# EAGLE library part 74AC11379 (library 74ac-logic)
Quadruple D-type FLIP FLOP, clock enable
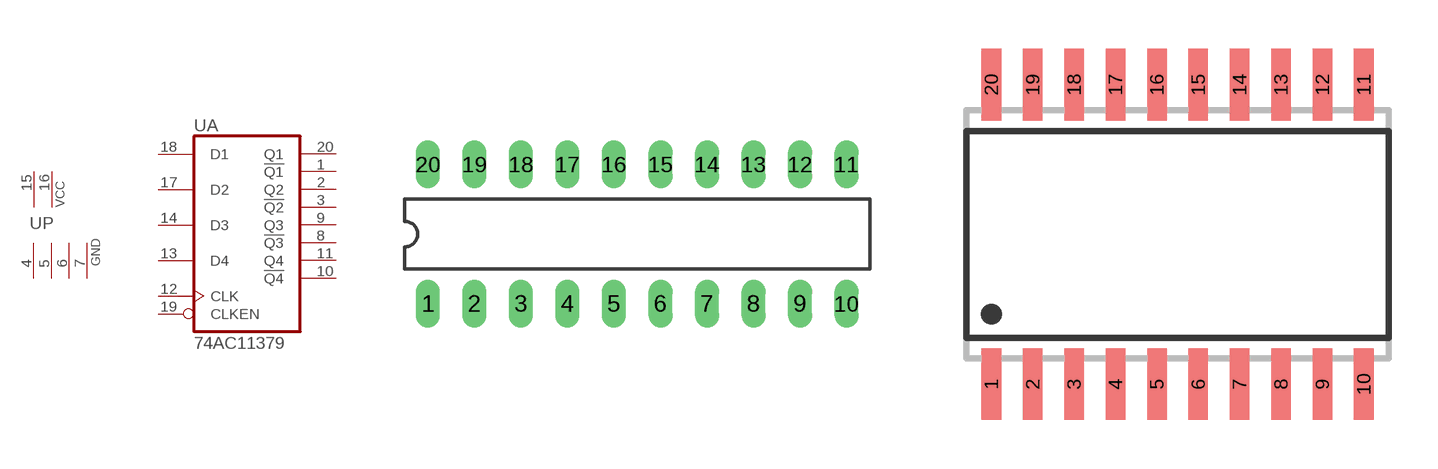
[diagram p45: symbol with the pads of DIL20; footprints DIL20, SO20W]

Designator prefix U; gates A=7411379 P=2PWR4GND

## 74AC11379  [DIL20]
1  A:!Q1!  out
2  A:Q2  out
3  A:!Q2!  out
4  P:GND  pwr
5  P:GND  pwr
6  P:GND  pwr
7  P:GND  pwr
8  A:!Q3!  out
9  A:Q3  out
10  A:!Q4!  out
11  A:Q4  out
12  A:CLK  in
13  A:D4  in
14  A:D3  in
15  P:VCC  pwr
16  P:VCC  pwr
17  A:D2  in
18  A:D1  in
19  A:CLKEN  in
20  A:Q1  out

## 74AC11379D  [SO20W]
Pads as for DIL20

## Footprint DIL20 (pad centres in mm)
Dual In Line Package
drill 0.813 long: 1 -11.43,-3.81; 2 -8.89,-3.81; 3 -6.35,-3.81; 4 -3.81,-3.81; 5 -1.27,-3.81; 6 1.27,-3.81; 7 3.81,-3.81; 8 6.35,-3.81; 9 8.89,-3.81; 10 11.43,-3.81; 11 11.43,3.81; 12 8.89,3.81; 13 6.35,3.81; 14 3.81,3.81; 15 1.27,3.81; 16 -1.27,3.81; 17 -3.81,3.81; 18 -6.35,3.81; 19 -8.89,3.81; 20 -11.43,3.81

## Footprint SO20W (pad centres in mm)
SMALL OUTLINE INTEGRATED CIRCUIT wide body 7.5 mm/JEDEC MS-013AC
smd 0.6 x 2.2: 1 -5.715,-4.6; 2 -4.445,-4.6; 3 -3.175,-4.6; 4 -1.905,-4.6; 5 -0.635,-4.6; 6 0.635,-4.6; 7 1.905,-4.6; 8 3.175,-4.6; 9 4.445,-4.6; 10 5.715,-4.6; 11 5.715,4.6; 12 4.445,4.6; 13 3.175,4.6; 14 1.905,4.6; 15 0.635,4.6; 16 -0.635,4.6; 17 -1.905,4.6; 18 -3.175,4.6; 19 -4.445,4.6; 20 -5.715,4.6